# EAGLE library part DS1803? (library DS1803)
Addresable Dual Digital Potentiometer
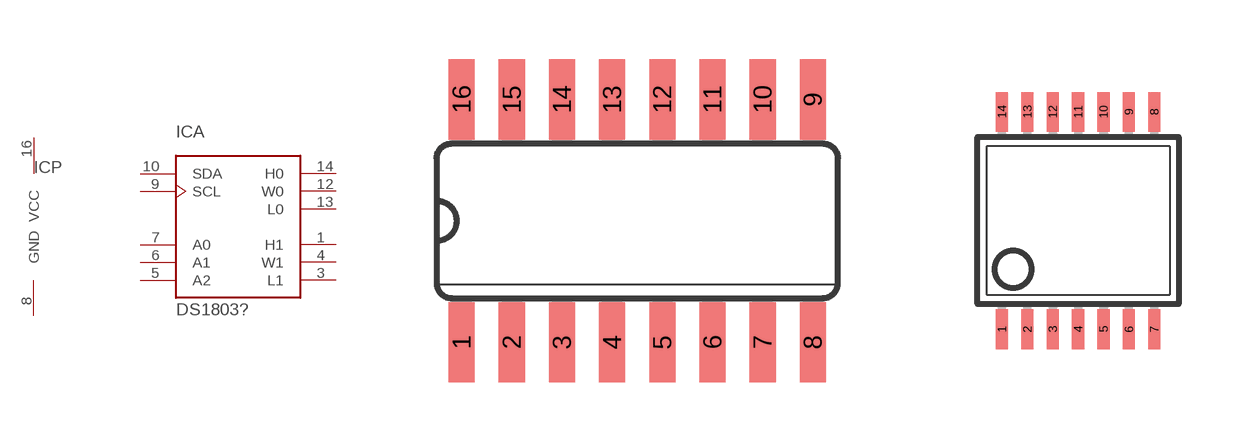
[diagram p0: symbol with the pads of SO16; footprints SO16, TSSOP14]

Designator prefix IC; gates A=DS1803 P=PWR

## DS1803SO16  [SO16]
1  A:H1
3  A:L1
4  A:W1
5  A:A2  in
6  A:A1  in
7  A:A0  in
8  P:GND  pwr
9  A:SCL  in
10  A:SDA
12  A:W0
13  A:L0
14  A:H0
16  P:VCC  pwr

## DS1803TSSOP14  [TSSOP14]
1  A:H1
2  A:L1
3  A:W1
4  A:A2  in
5  A:A1  in
6  A:A0  in
7  P:GND  pwr
8  A:SCL  in
9  A:SDA
10  A:W0
11  A:L0
12  A:H0
14  P:VCC  pwr

## DS1803DIL16  [DIL16]
Pads as for SO16

## Footprint SO16 (pad centres in mm)
Small Outline package 150 mil
smd 0.66 x 2.032: 1 -4.445,-3.073; 2 -3.175,-3.073; 3 -1.905,-3.073; 4 -0.635,-3.073; 5 0.635,-3.073; 6 1.905,-3.073; 7 3.175,-3.073; 8 4.445,-3.073; 9 4.445,3.073; 10 3.175,3.073; 11 1.905,3.073; 12 0.635,3.073; 13 -0.635,3.073; 14 -1.905,3.073; 15 -3.175,3.073; 16 -4.445,3.073

## Footprint TSSOP14 (pad centres in mm)
Thin Shrink Small Outline Plastic 14
smd 0.305 x 0.991: 1 -1.905,-2.718; 2 -1.27,-2.718; 3 -0.635,-2.718; 4 0,-2.718; 5 0.635,-2.718; 6 1.27,-2.718; 7 1.905,-2.718; 8 1.905,2.718; 9 1.27,2.718; 10 0.635,2.718; 11 0,2.718; 12 -0.635,2.718; 13 -1.27,2.718; 14 -1.905,2.718

## Footprint DIL16 (pad centres in mm)
Dual In Line Package
drill 0.813 long: 1 -8.89,-3.81; 2 -6.35,-3.81; 3 -3.81,-3.81; 4 -1.27,-3.81; 5 1.27,-3.81; 6 3.81,-3.81; 7 6.35,-3.81; 8 8.89,-3.81; 9 8.89,3.81; 10 6.35,3.81; 11 3.81,3.81; 12 1.27,3.81; 13 -1.27,3.81; 14 -3.81,3.81; 15 -6.35,3.81; 16 -8.89,3.81